# EAGLE library part MX150L-8-RCPT (library Molex-Aaron_2)
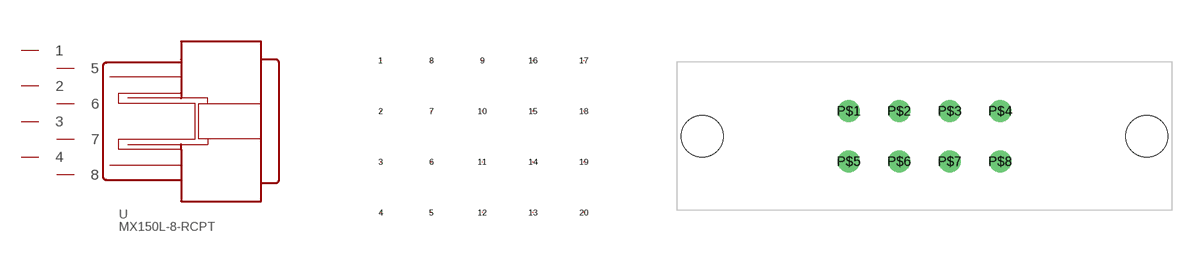
[diagram p6: symbol with the pads of NO_PACKAGE; footprints NO_PACKAGE, MOLEX-8-DUAL-HORIZONTAL]

Designator prefix -

## MX150L-8-RCPT"  [NO_PACKAGE]
1  1
2  2
3  3
4  4
5  5
6  6
7  7
8  8

## MX150L-8-RCPTHORIZONTAL  [MOLEX-8-DUAL-HORIZONTAL]
P$1  8
P$2  7
P$3  6
P$4  5
P$5  4
P$6  3
P$7  2
P$8  1

## Footprint NO_PACKAGE (pad centres in mm)
smd 0.025 x 0.025: 1 -1.27,1.27; 2 -1.27,0; 3 -1.27,-1.27; 4 -1.27,-2.54; 5 0,-2.54; 6 0,-1.27; 7 0,0; 8 0,1.27; 9 1.27,1.27; 10 1.27,0; 11 1.27,-1.27; 12 1.27,-2.54; 13 2.54,-2.54; 14 2.54,-1.27; 15 2.54,0; 16 2.54,1.27; 17 3.81,1.27; 18 3.81,0; 19 3.81,-1.27; 20 3.81,-2.54

## Footprint MOLEX-8-DUAL-HORIZONTAL (pad centres in mm)
drill 1.575 pad 2.54 round: P$1 -8.763,2.921; P$2 -2.921,2.921; P$3 2.921,2.921; P$4 8.763,2.921; P$5 -8.763,-2.921; P$6 -2.921,-2.921; P$7 2.921,-2.921; P$8 8.763,-2.921
hole 4.826 at -25.705,0
hole 4.826 at 25.705,0